# EAGLE library part MAX485 (library andereBauteile)
MAX485 RS485 Half Duplex Driver
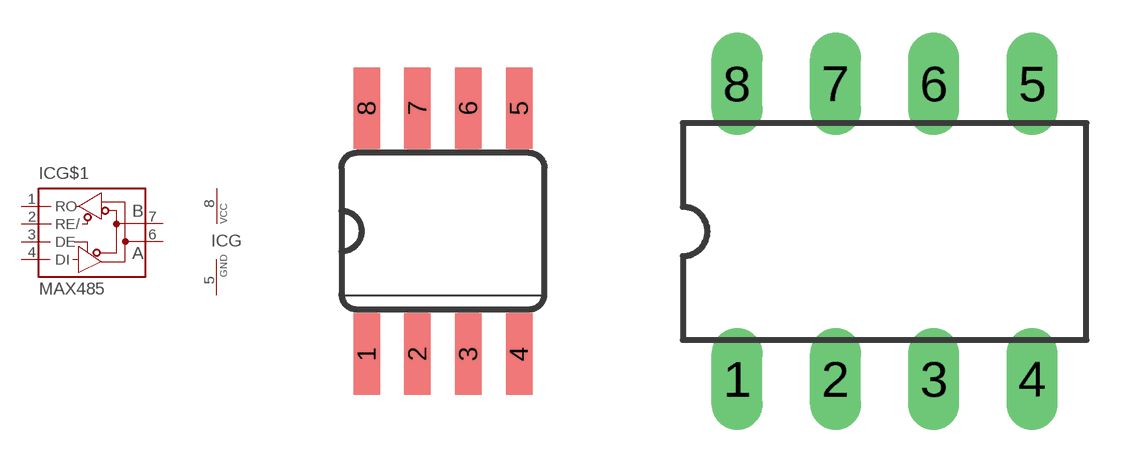
[diagram p9: symbol with the pads of SO08; footprints SO08, DIL08]

Designator prefix IC; gates G$1=MAX485 G=VCC-GND

## MAX485CSA  [SO08]
1  G$1:RO  out
2  G$1:RE/  in
3  G$1:DE  in
4  G$1:DI  in
5  G:GND  pwr
6  G$1:A  pas
7  G$1:B  pas
8  G:VCC  pwr

## MAX485CPA  [DIL08]
Pads as for SO08

## Footprint SO08 (pad centres in mm)
smd 0.66 x 2.032: 1 -1.905,-3.073; 2 -0.635,-3.073; 3 0.635,-3.073; 4 1.905,-3.073; 5 1.905,3.073; 6 0.635,3.073; 7 -0.635,3.073; 8 -1.905,3.073

## Footprint DIL08 (pad centres in mm)
drill 0.813 long: 1 -3.81,-3.81; 2 -1.27,-3.81; 3 1.27,-3.81; 4 3.81,-3.81; 5 3.81,3.81; 6 1.27,3.81; 7 -1.27,3.81; 8 -3.81,3.81